# EAGLE library part LM358PWR (library PiezoFFC)
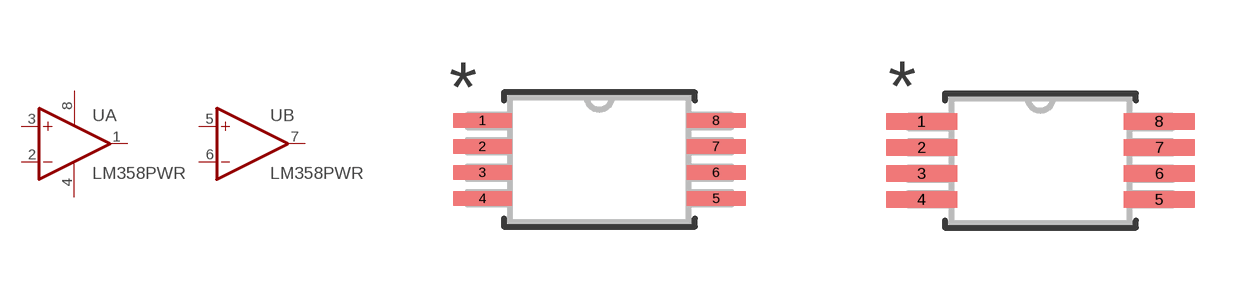
[diagram p21: symbol with the pads of PW8; footprints PW8, PW8-M]

Designator prefix U; gates A=OPAMP+GN B=OPAMP

## LM358PWR (MANUFACTURER_PART_NUMBER: LM358PWR; VENDOR: Vendor)  [PW8]
1  A:1OUT  out
2  A:1IN-  in
3  A:1IN+  in
4  A:GND  pwr
5  B:2IN+  in
6  B:2IN-  in
7  B:2OUT  out
8  A:VCC  pwr

## LM358PWRPW8-M (MANUFACTURER_PART_NUMBER: LM358PWR; VENDOR: Vendor)  [PW8-M]
Pads as for PW8

## LM358PWRPW8-L (MANUFACTURER_PART_NUMBER: LM358PWR; VENDOR: Vendor)  [PW8-L]
Pads as for PW8

## LM358PWRDFN-8  [SON50P200X200X60-9N]
Pads as for PW8

## Footprint PW8 (pad centres in mm)
smd 1.473 x 0.356: 1 -2.921,0.975; 2 -2.921,0.325; 3 -2.921,-0.325; 4 -2.921,-0.975; 5 2.921,-0.975; 6 2.921,-0.325; 7 2.921,0.325; 8 2.921,0.975

## Footprint PW8-M (pad centres in mm)
smd 1.778 x 0.406: 1 -2.972,0.975; 2 -2.972,0.325; 3 -2.972,-0.325; 4 -2.972,-0.975; 5 2.972,-0.975; 6 2.972,-0.325; 7 2.972,0.325; 8 2.972,0.975

## Footprint PW8-L (pad centres in mm)
smd 1.168 x 0.305: 1 -2.87,0.975; 2 -2.87,0.325; 3 -2.87,-0.325; 4 -2.87,-0.975; 5 2.87,-0.975; 6 2.87,-0.325; 7 2.87,0.325; 8 2.87,0.975

## Footprint SON50P200X200X60-9N (pad centres in mm)
smd 0.74 x 0.26: 1 -1.02,0.75; 2 -1.02,0.25; 3 -1.02,-0.25; 4 -1.02,-0.75; 5 1.02,-0.75; 6 1.02,-0.25; 7 1.02,0.25; 8 1.02,0.75
smd 0.9 x 1.6: 9 0,0